# Altium schematic symbol library RP235xA.SchLib: 1 symbol
Pins are listed as number, name and electrical type; pins without a type are passive.

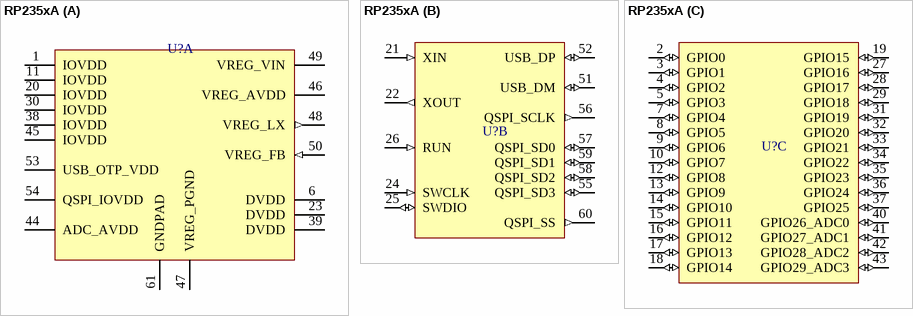
[diagram p0: symbol RP235xA]

## RP235xA
designator U?  (value not drawn)
part A pins: 1 IOVDD (power), 6 DVDD (power), 11 IOVDD (power), 20 IOVDD (power), 23 DVDD (power), 30 IOVDD (power), 38 IOVDD (power), 39 DVDD (power), 44 ADC_AVDD (power), 45 IOVDD (power), 46 VREG_AVDD (power), 47 VREG_PGND (power), 48 VREG_LX (out), 49 VREG_VIN (power), 50 VREG_FB (in), 53 USB_OTP_VDD (power), 54 QSPI_IOVDD (power), 61 GNDPAD (power)
part B pins: 21 XIN (in), 22 XOUT (out), 24 SWCLK (in), 25 SWDIO (io), 26 RUN (in), 51 USB_DM (io), 52 USB_DP (io), 55 QSPI_SD3 (io), 56 QSPI_SCLK (out), 57 QSPI_SD0 (io), 58 QSPI_SD2 (io), 59 QSPI_SD1 (io), 60 QSPI_SS (out)
part C pins: 2 GPIO0 (io), 3 GPIO1 (io), 4 GPIO2 (io), 5 GPIO3 (io), 7 GPIO4 (io), 8 GPIO5 (io), 9 GPIO6 (io), 10 GPIO7 (io), 12 GPIO8 (io), 13 GPIO9 (io), 14 GPIO10 (io), 15 GPIO11 (io), 16 GPIO12 (io), 17 GPIO13 (io), 18 GPIO14 (io), 19 GPIO15 (io), 27 GPIO16 (io), 28 GPIO17 (io), 29 GPIO18 (io), 31 GPIO19 (io), 32 GPIO20 (io), 33 GPIO21 (io), 34 GPIO22 (io), 35 GPIO23 (io), 36 GPIO24 (io), 37 GPIO25 (io), 40 GPIO26_ADC0 (io), 41 GPIO27_ADC1 (io), 42 GPIO28_ADC2 (io), 43 GPIO29_ADC3 (io)